# EAGLE library part 416131160803 (library 428427520910_Eagle_WS-ROTU_rev19b)
WS-DISV 1.27mm small compact SMD flat actuator with top tape Specification MATERIAL PROPERTIES: Cover Material PPA Cover Flammability Rating UL94 V-0 Cover Color Brown Base Material PPA Base Flammability Rating UL94 V-0 Base Color Brown Actuator Material PA46 Actuator Flammability Rating UL94 V-0 Actuator Color White Contact Plating Gold Terminal Plating Gold ELECTRICAL PROPERTIES: Rated Current Switching 25 mA Rated Current Non-Switching 100 mA Contact Resistance Initial 100 mΩ Contact Resistance After Life Test 200 mΩ Insulation Resistance 100 MΩ Withstanding Voltage 300 V (AC) MECHANICAL PROPERTIES: Operation Force 500 g Electrical Life 1000 Cycles Mechanical Life min. 2000 cycles Actuator Type Flat Type Switch Position Off <http://katalog.we-online.de/media/images/v2/Family_WS-DISV_SMD_FLAT_ACTUATOR_4161311608xx_4C.jpg> Details see: http://katalog.we-online.de/en/em/DISV_1_27_SMALL_COMPACT_SMD_FLAT_ACTUATOR/416131160803 2017 (C) Wurth Elektronik
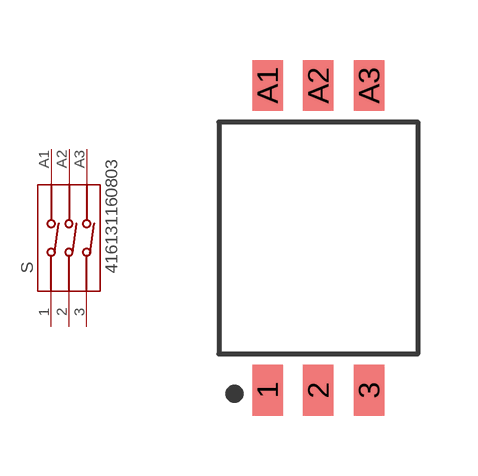
[diagram p132: symbol with the pads of 416131160803; footprint 416131160803]

Designator prefix S

## 416131160803  [416131160803]
1  1  pas
2  2  pas
3  3  pas
A1  A1  pas
A2  A2  pas
A3  A3  pas

## Footprint 416131160803 (pad centres in mm)
WS-DISV SMD version flat actuator with top tape sealed 416131160804
smd 0.76 x 1.27: 1 -1.27,-3.81; 2 0,-3.81; 3 1.27,-3.81; A1 -1.27,3.81; A2 0,3.81; A3 1.27,3.81